# EAGLE library part ST80X-18S (library connector-hirose)
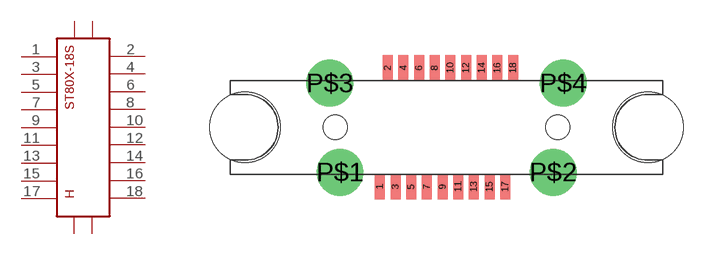
[diagram p0: symbol with the pads of ST80X; footprint ST80X]

Designator prefix H

## ST80X-18S  [ST80X]
1  1
2  2
3  3
4  4
5  5
6  6
7  7
8  8
9  9
10  10
11  11
12  12
13  13
14  14
15  15
16  16
17  17
18  18
P$1  P$1
P$2  P$2
P$3  P$3
P$4  P$4

## Footprint ST80X (pad centres in mm)
smd 0.635 x 1.6: 1 -4.25,-3.8; 2 -3.75,3.8; 3 -3.25,-3.8; 4 -2.75,3.8; 5 -2.25,-3.8; 6 -1.75,3.8; 7 -1.25,-3.8; 8 -0.75,3.8; 9 -0.25,-3.8; 10 0.25,3.8; 11 0.75,-3.8; 12 1.25,3.8; 13 1.75,-3.8; 14 2.25,3.8; 15 2.75,-3.8; 16 3.25,3.8; 17 3.75,-3.8; 18 4.25,3.8
drill 2: P$1 -6.8,-2.875; P$2 6.8,-2.875; P$3 -7.45,2.825; P$4 7.45,2.825
hole 1.55 at -7.1,0
hole 1.55 at 7.1,0
hole 4.5 at 12.85,0
hole 4.5 at -12.85,0